# EAGLE library part IDUINO (library iduino)
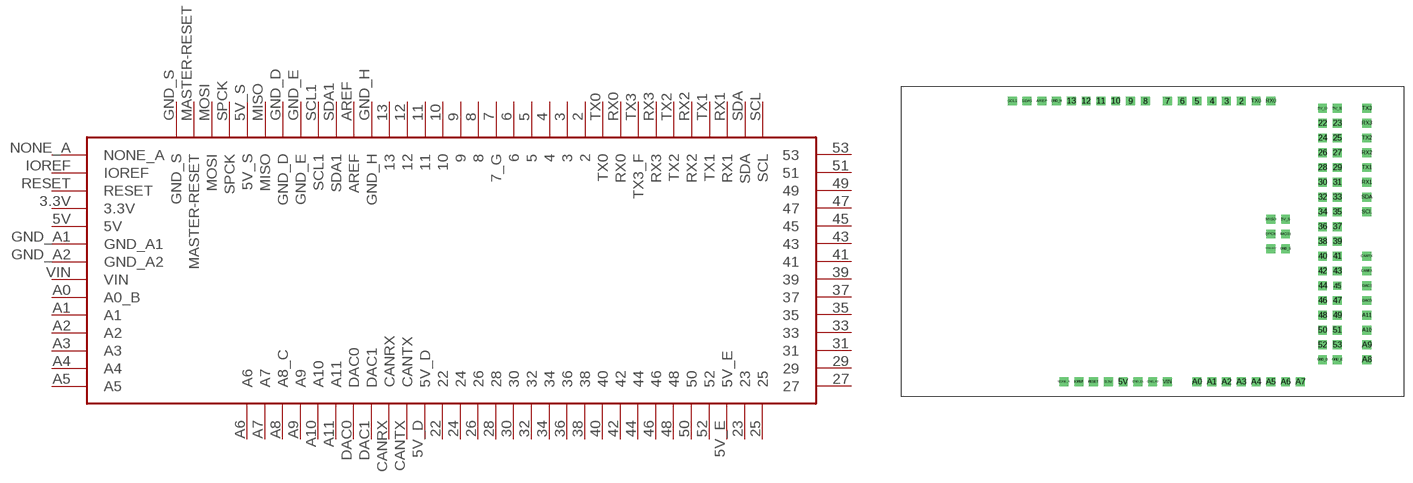
[diagram p0: symbol with the pads of IDUINO_PAC; footprint IDUINO_PAC]

Designator prefix -

## IDUINO1  [IDUINO_PAC]
2  2
3  3
3.3V  3.3V
4  4
5  5
5V  5V
5V_D  5V_D
5V_E  5V_E
5V_S  5V_S
6  6
7  7_G
8  8
9  9
10  10
11  11
12  12
13  13
22  22
23  23
24  24
25  25
26  26
27  27
28  28
29  29
30  30
31  31
32  32
33  33
34  34
35  35
36  36
37  37
38  38
39  39
40  40
41  41
42  42
43  43
44  44
45  45
46  46
47  47
48  48
49  49
50  50
51  51
52  52
53  53
A0  A0_B
A1  A1
A2  A2
A3  A3
A4  A4
A5  A5
A6  A6
A7  A7
A8  A8_C
A9  A9
A10  A10
A11  A11
AREF  AREF
CANRX  CANRX
CANTX  CANTX
DAC0  DAC0
DAC1  DAC1
GND_A1  GND_A1
GND_A2  GND_A2
GND_D  GND_D
GND_E  GND_E
GND_H  GND_H
GND_S  GND_S
IOREF  IOREF
MASTER-RESET  MASTER-RESET
MISO  MISO
MOSI  MOSI
NONE_A  NONE_A
RESET  RESET
RX0  RX0
RX1  RX1
RX2  RX2
RX3  RX3
SCL  SCL
SCL1  SCL1
SDA  SDA
SDA1  SDA1
SPCK  SPCK
TX0  TX0
TX1  TX1
TX2  TX2
TX3  TX3_F
VIN  VIN

## Footprint IDUINO_PAC (pad centres in mm)
drill 1.016 square: 2 12.7,6.35; 3 10.16,6.35; 3.3V -10.16,-41.91; 4 7.62,6.35; 5 5.08,6.35; 5V -7.62,-41.91; 5V_D 26.67,5.08; 5V_E 29.21,5.08; 5V_S 20.32,-13.97; 6 2.54,6.35; 7 0,6.35; 8 -3.81,6.35; 9 -6.35,6.35; 10 -8.89,6.35; 11 -11.43,6.35; 12 -13.97,6.35; 13 -16.51,6.35; 22 26.67,2.54; 23 29.21,2.54; 24 26.67,0; 25 29.21,0; 26 26.67,-2.54; 27 29.21,-2.54; 28 26.67,-5.08; 29 29.21,-5.08; 30 26.67,-7.62; 31 29.21,-7.62; 32 26.67,-10.16; 33 29.21,-10.16; 34 26.67,-12.7; 35 29.21,-12.7; 36 26.67,-15.24; 37 29.21,-15.24; 38 26.67,-17.78; 39 29.21,-17.78; 40 26.67,-20.32; 41 29.21,-20.32; 42 26.67,-22.86; 43 29.21,-22.86; 44 26.67,-25.4; 46 26.67,-27.94; 47 29.21,-27.94; 48 26.67,-30.48; 49 29.21,-30.48; 50 26.67,-33.02; 51 29.21,-33.02; 52 26.67,-35.56; 53 29.21,-35.56; A0 5.08,-41.91; A1 7.62,-41.91; A2 10.16,-41.91; A3 12.7,-41.91; A4 15.24,-41.91; A5 17.78,-41.91; A6 20.32,-41.91; A7 22.86,-41.91; A8 34.29,-38.1; A9 34.29,-35.56; A10 34.29,-33.02; A11 34.29,-30.48; AREF -21.59,6.35; CANRX 34.29,-22.86; CANTX 34.29,-20.32; DAC0 34.29,-27.94; DAC1 34.29,-25.4; GND_A1 -5.08,-41.91; GND_A2 -2.54,-41.91; GND_D 26.67,-38.1; GND_E 29.21,-38.1; GND_H -19.05,6.35; GND_S 20.32,-19.05; IOREF -15.24,-41.91; MASTER-RESET 17.78,-19.05; MISO 17.78,-13.97; MOSI 20.32,-16.51; NONE_A -17.78,-41.91; RESET -12.7,-41.91; RX0 17.78,6.35; RX1 34.29,-7.62; RX2 34.29,-2.54; RX3 34.29,2.54; SCL 34.29,-12.7; SCL1 -26.67,6.35; SDA 34.29,-10.16; SDA1 -24.13,6.35; SPCK 17.78,-16.51; TX0 15.24,6.35; TX1 34.29,-5.08; TX2 34.29,0; TX3 34.29,5.08; VIN 0,-41.91
drill 0.8 square: 45 29.21,-25.4